# Altium schematic symbol library TMC6300.SchLib: 1 symbol
Pins are listed as number, name and electrical type; pins without a type are passive.

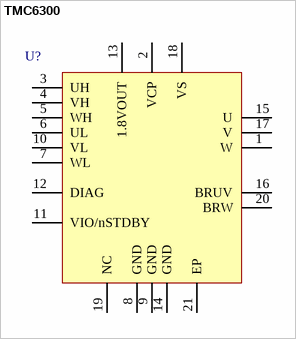
[diagram p0: symbol TMC6300]

## TMC6300
designator U?  (value not drawn)
pins: 1 W, 2 VCP, 3 UH, 4 VH, 5 WH, 6 UL, 7 WL, 8 GND, 9 GND, 10 VL, 11 VIO/nSTDBY, 12 DIAG, 13 1.8VOUT, 14 GND, 15 U, 16 BRUV, 17 V, 18 VS, 19 NC, 20 BRW, 21 EP